# Altium integrated library Headers.IntLib: 5 symbols
Pins are listed as number, name and electrical type; pins without a type are passive.

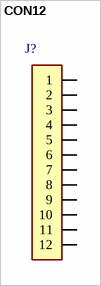
[diagram p0: symbol CON12]

## CON12
designator J?
footprint 12HDR_2mm
pins: 1, 2, 3, 4, 5, 6, 7, 8, 9, 10, 11, 12


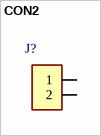
[diagram p1: symbol CON2]

## CON2
designator J?
footprint 2HDR_2mm
pins: 1, 2


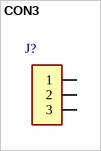
[diagram p2: symbol CON3]

## CON3
designator J?
footprint 3HDR_2mm
pins: 1, 2, 3


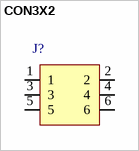
[diagram p3: symbol CON3X2]

## CON3X2
designator J?
footprint 2x3HDR_2mm
pins: 1, 2, 3, 4, 5, 6


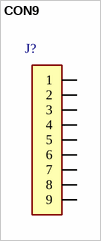
[diagram p4: symbol CON9]

## CON9
designator J?
footprint 9HDR_2mm
pins: 1, 2, 3, 4, 5, 6, 7, 8, 9